# EAGLE library part 6273XX20621_62735020621 (library WR-BHD)
WR-BHD 1.27 mm Male SMT Box Header KIND PROPERTIES: Pitch 1.27 mm Gender:Male MATERIAL PROPERTIES: Insulator Material Nylon 9T Insulator Flammability Rating UL94 V-0 Insulator Color Black Contact Material Brass Contact Plating Gold over Nickel GENERAL INFORMATION: Operating Temperature -40 up to +105 °C Working Voltage 50 V (AC) Withstanding Voltage 500 V (AC) Contact Resistance 20 mΩ RISO 1000 MΩ CERTIFICATION: UL Approval E323964 <https://www.we-online.com/catalog/media/o375406v209%20Family_WR-BHD_6270xx20621.jpg> Details see: https://www.we-online.com/catalog/en/WR_BHD_1_27_MM_MALE_SMT_BOX_HEADER Created by Ella Wu 2021-08-24 2021 (C) Würth Elektronik
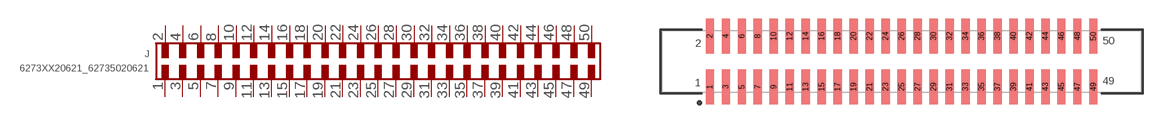
[diagram p134: symbol with the pads of 62735020621; footprint 62735020621]

Designator prefix J

## 6273XX20621_62735020621 (CONTACT-RESISTANCE: 20mOhm; DATASHEET-URL: https://www.we-online.com/redexpert/spec/62735020621?ae; GENDER: Male; IR: 1A; LENGTH: 38.1mm; MOUNT: SMT; PART-NUMBER: 62735020621; PINS: 50; PITCH: 1.27mm; TYPE: Straight; VALUE: 62735020621; WORKING-VOLTAGE: 50V(AC))  [62735020621]
1  1  pas
2  2  pas
3  3  pas
4  4  pas
5  5  pas
6  6  pas
7  7  pas
8  8  pas
9  9  pas
10  10  pas
11  11  pas
12  12  pas
13  13  pas
14  14  pas
15  15  pas
16  16  pas
17  17  pas
18  18  pas
19  19  pas
20  20  pas
21  21  pas
22  22  pas
23  23  pas
24  24  pas
25  25  pas
26  26  pas
27  27  pas
28  28  pas
29  29  pas
30  30  pas
31  31  pas
32  32  pas
33  33  pas
34  34  pas
35  35  pas
36  36  pas
37  37  pas
38  38  pas
39  39  pas
40  40  pas
41  41  pas
42  42  pas
43  43  pas
44  44  pas
45  45  pas
46  46  pas
47  47  pas
48  48  pas
49  49  pas
50  50  pas

## Footprint 62735020621 (pad centres in mm)
WR-BHD 1.27 mm Male SMT Box Header Pitch: 1.27mm, 50pins, SMT
smd 0.65 x 2.76: 1 -15.24,-2.02; 2 -15.24,2.02; 3 -13.97,-2.02; 4 -13.97,2.02; 5 -12.7,-2.02; 6 -12.7,2.02; 7 -11.43,-2.02; 8 -11.43,2.02; 9 -10.16,-2.02; 10 -10.16,2.02; 11 -8.89,-2.02; 12 -8.89,2.02; 13 -7.62,-2.02; 14 -7.62,2.02; 15 -6.35,-2.02; 16 -6.35,2.02; 17 -5.08,-2.02; 18 -5.08,2.02; 19 -3.81,-2.02; 20 -3.81,2.02; 21 -2.54,-2.02; 22 -2.54,2.02; 23 -1.27,-2.02; 24 -1.27,2.02; 25 0,-2.02; 26 0,2.02; 27 1.27,-2.02; 28 1.27,2.02; 29 2.54,-2.02; 30 2.54,2.02; 31 3.81,-2.02; 32 3.81,2.02; 33 5.08,-2.02; 34 5.08,2.02; 35 6.35,-2.02; 36 6.35,2.02; 37 7.62,-2.02; 38 7.62,2.02; 39 8.89,-2.02; 40 8.89,2.02; 41 10.16,-2.02; 42 10.16,2.02; 43 11.43,-2.02; 44 11.43,2.02; 45 12.7,-2.02; 46 12.7,2.02; 47 13.97,-2.02; 48 13.97,2.02; 49 15.24,-2.02; 50 15.24,2.02